# EAGLE library part CC_DEBUG (library bleHAT)
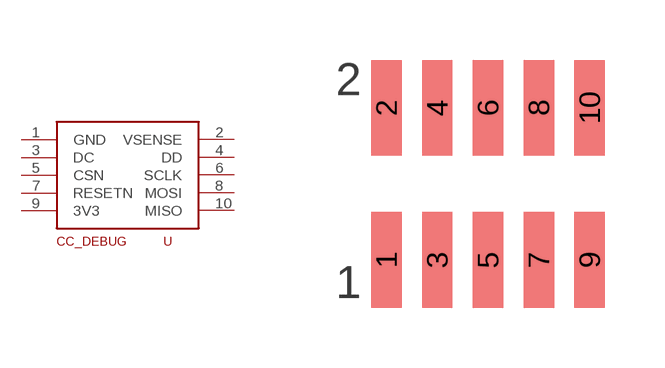
[diagram p2: symbol with the pads of HDR_2X5_127MM; footprint HDR_2X5_127MM]

Designator prefix -

## CC_DEBUG  [HDR_2X5_127MM]
1  GND
2  VSENSE
3  DC
4  DD
5  CSN
6  SCLK
7  RESETN
8  MOSI
9  3V3
10  MISO

## Footprint HDR_2X5_127MM (pad centres in mm)
smd 0.76 x 2.4: 1 -2.54,-2.54; 2 -2.54,1.27; 3 -1.27,-2.54; 4 -1.27,1.27; 5 0,-2.54; 6 0,1.27; 7 1.27,-2.54; 8 1.27,1.27; 9 2.54,-2.54; 10 2.54,1.27